# Altium footprint library SparkFun-LED.PCBLIB: 30 footprints (part 1 of 2)
Each footprint in its own frame and in the unit in brackets; x right, y up, seen from the top. Pads: shape width x height; smd on the part's side, far side on the other; paste and mask are expansions set on the pad; w line width, h text height; cw(c..) or ccw(c..) is an arc to the next point about the centre after c.
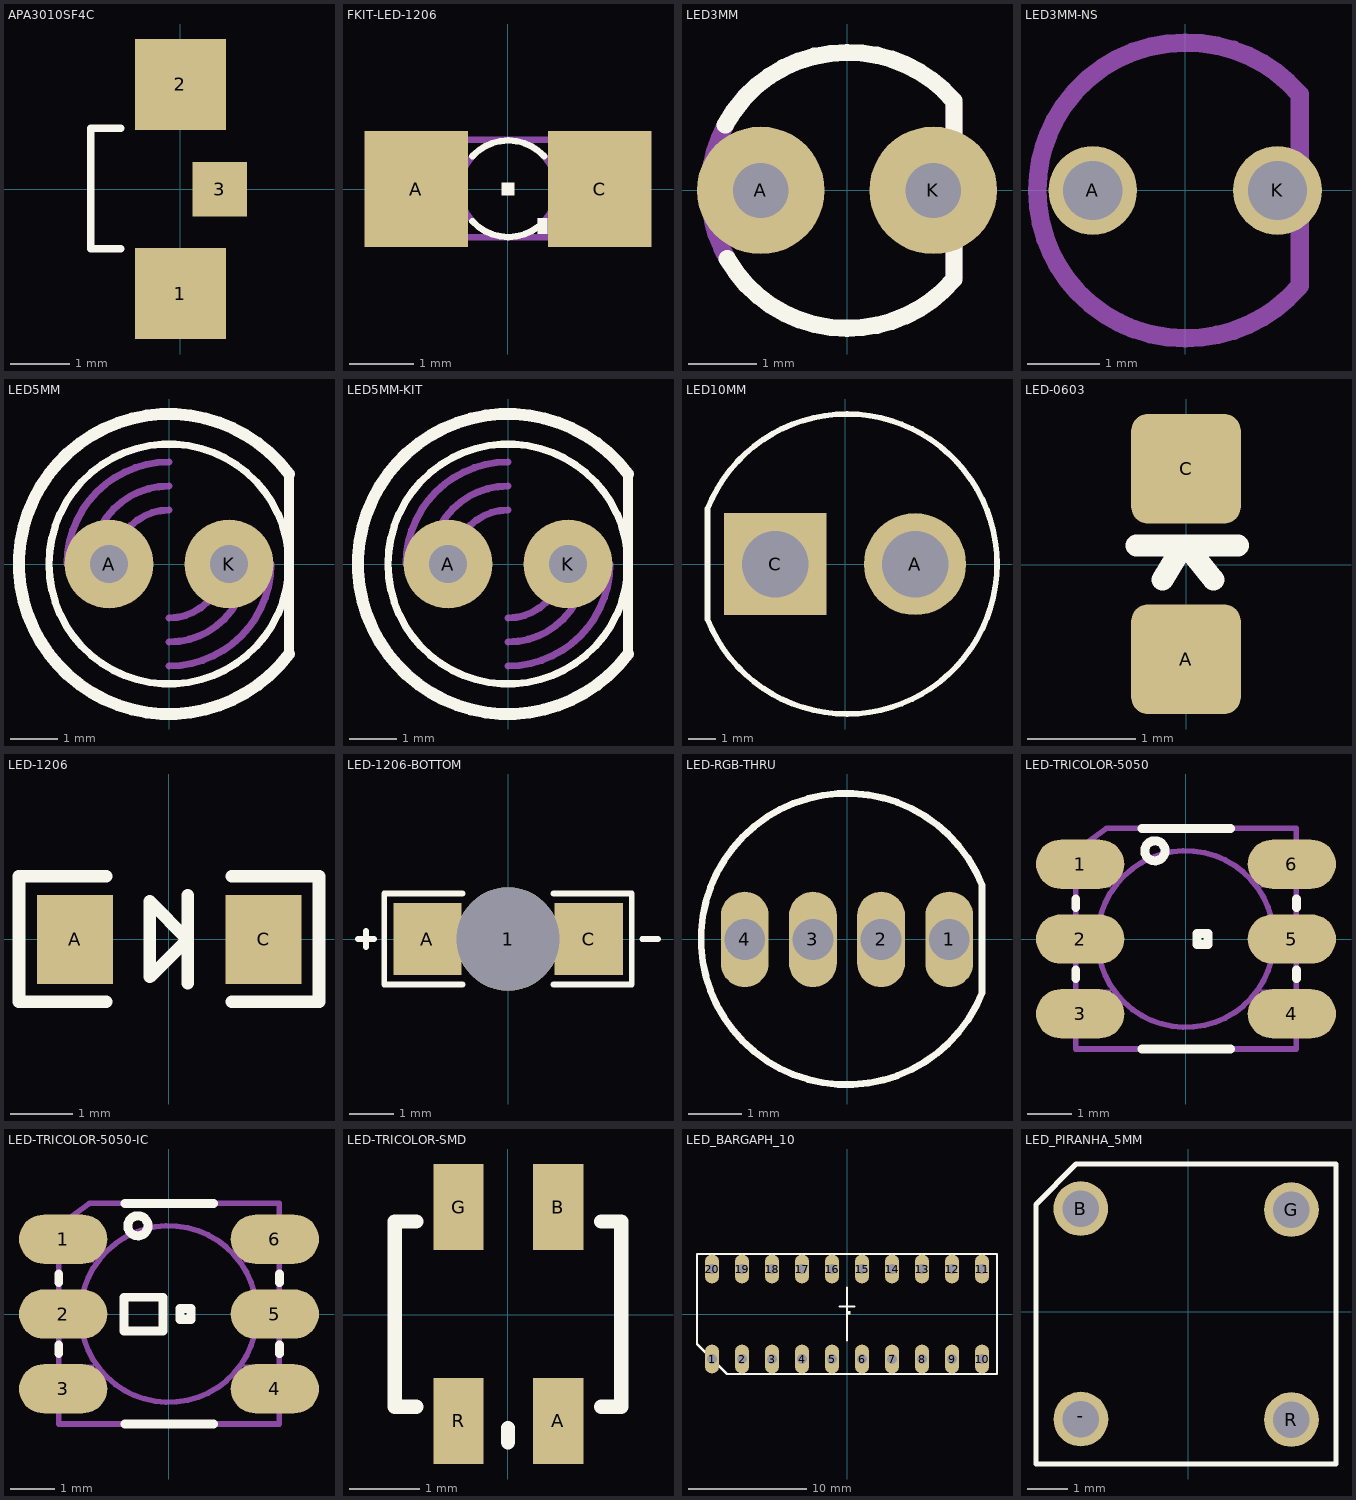
[diagram p0: the footprints below, top view; thin cyan lines are the x and y axes]

## APA3010SF4C [mil]
pads (3):
  rect 60x60 smd: 1(0,-68.9) 2(0,69)
  rect 36x36 smd: 3(26,0)
Top Overlay:
  lines w5: -39.37,-39.37 -59.06,-39.37 -59.06,40 -39.37,40

## FKIT-LED-1206 [mil]
pads (2):
  rect 63x71 smd: A(-55.98,0) C(56,0)
Top Overlay:
  rectangle: -3.94,-3.94 4,4
  rectangle: 18,-27.56 24,-17.72
  lines w4: -21.65,-19.69 ccw(c0.17,0.16) 22,-19.69 ; -21.65,20 cw(c0.17,0.16) 22,20
Mechanical 2:
  text ">NAME" at -50,50 h77.5
Mechanical 4:
  text ">VALUE" at -50,-100 h77.5
Mechanical 16:
  rectangle: 18,-27.56 32,-17.72
  rectangle: 32,-27.56 36,20
  rectangle: 32,22 36,28
  rectangle: -35.43,-27.56 -31.5,20
  rectangle: -35.43,22 -31.5,28
  lines w4: -21.65,-19.69 cw(c0.17,0.16) -21.65,20 ; 22,-19.69 ccw(c0.17,0.16) 22,20 ; -61.02,-29.53 62,-29.53 62,30 -61.02,30 -61.02,-29.53

## LED3MM [mil]
pads (2):
  round 74 hole 32: A(-50,0) K(50,0)
Top Overlay:
  lines w10: -70.59,38 cw(c-0.29,0.18) 0,80 cw(c1.11,-0.19) 62,52 ; -69.46,-39.69 ccw(c0,0) 0,-80 ccw(c0.47,1) 62,-51.68 ; 62,-51 62,-33 ; 62,31 62,51
Mechanical 2:
  text ">NAME" at 75,15 h77.5
Mechanical 4:
  text ">VALUE" at 75,-65 h77.5
Mechanical 16:
  lines w10: -70.44,38 ccw(c0.14,0.04) -80,0 ccw(c0,0) -68.13,-41.93 ; 62,-50 62,50

## LED3MM-NS [mil]
pads (2):
  round 48 hole 32: A(-50,0) K(50,0)
Mechanical 2:
  text ">NAME" at 75,15 h77.5
Mechanical 4:
  text ">VALUE" at 75,-65 h77.5
Mechanical 16:
  lines w10: -70.59,38 cw(c-0.29,0.18) 0,80 cw(c1.11,-0.19) 62,52 ; -70.44,38 ccw(c0.14,0.04) -80,0 ccw(c0,0) -68.13,-41.93 ; -69.46,-39.69 ccw(c0,0) 0,-80 ccw(c0.47,1) 62,-51.68 ; 62,-51 62,-33 ; 62,-50 62,50 ; 62,31 62,51

## LED5MM [mil]
pads (2):
  round 74 hole 32: A(-50,0) K(50,0)
Top Overlay:
  circle w6: c0,0 r100
  lines w8: 100,-75 100,75
  lines w10: 100,-75 cw(c0,0) 100,75
Mechanical 2:
  text ">NAME" at 125,21 h77.5
Mechanical 4:
  text ">VALUE" at 126,-71 h77.5
Mechanical 16:
  lines w6: -85,0 cw(c0,0) 0,85 ; -65,0 cw(c0,0) 0,65 ; -45,0 cw(c0,0) 0,45 ; 0,-85 ccw(c0,0) 85,0 ; 0,-65 ccw(c0,0) 65,0 ; 0,-45 ccw(c0,0) 45,0

## LED5MM-KIT [mil]
pads (2):
  round 74 hole 32: A(-50,0) K(50,0)
Top Overlay:
  circle w6: c0,0 r100
  lines w8: 100,-75 100,75
  lines w10: 100,-75 cw(c0,0) 100,75
Top Solder:
  region: 0,0 10,0 10,10 0,10
  region: 0,0 10,0 10,10 0,10
Bottom Solder:
  region: 0,0 10,0 10,10 0,10
  region: 0,0 10,0 10,10 0,10
Mechanical 2:
  text ">NAME" at 125,21 h77.5
Mechanical 4:
  text ">VALUE" at 126,-71 h77.5
Mechanical 16:
  lines w6: -85,0 cw(c0,0) 0,85 ; -65,0 cw(c0,0) 0,65 ; -45,0 cw(c0,0) 0,45 ; 0,-85 ccw(c0,0) 85,0 ; 0,-65 ccw(c0,0) 65,0 ; 0,-45 ccw(c0,0) 45,0

## LED10MM [mil]
pads (2):
  round 146 hole 95: A(100,0)
  rect 146x146 hole 95: C(-100,0)
Top Overlay:
  lines w8: -196.85,-78.74 ccw(c2.67,0.13) -196.85,79 -196.85,-78.74
Mechanical 16:
  text "L" at 85,100 h62
  text "S" at -115,100 h62

## LED-0603 [mil]
pads (2):
  rrect30% 40x40 smd: A(0,-34.53) C(0,35)
Top Overlay:
  lines w8: -18.11,7 0,7 ; -8.6,-5.51 -1,7 ; 10,-5.51 0,7 ; 19,7 0,7
Mechanical 2:
  text ">NAME" at -27.5,-35 h24.8
Mechanical 4:
  text ">VALUE" at 43,-40 h24.8

## LED-1206 [mil]
pads (2):
  rect 48x56 smd: A(-59.06,0) C(60,0)
Top Overlay:
  lines w8: -39.37,-39.37 -94.49,-39.37 -94.49,40 -39.37,40 ; 12,-27.56 12,0 ; 12,28 12,0 ; 40,-39.37 95,-39.37 95,40 40,40 ; 12,0 -11.81,24 -11.81,-23.62 12,0
Mechanical 2:
  text ">NAME" at -35,55 h24.8
Mechanical 4:
  text ">VALUE" at -40,-70 h24.8

## LED-1206-BOTTOM [mil]
pads (3):
  round 91 hole 91: 1(0,0)
  rect 60x63 smd: A(-70.87,0) C(71,0)
Top Overlay:
  lines w5: -132,0 -118,0 ; -125,-7 -125,7 ; -40,-40 -109,-40 -109,40 -40,40 ; 40,-40 109,-40 109,40 40,40 ; 118,0 132,0
Mechanical 2:
  text ">NAME" at -100,50 h77.5
Mechanical 4:
  text ">VALUE" at -100,-100 h77.5
Mechanical 14:
  lines w5: -94.49,0 -62.99,0 ; -78.74,-15.75 -78.74,16 ; -50,0 -15,0 ; 10,-25 10,0 ; 10,25 10,0 ; 50,0 10,0 ; 63,0 95,0 ; -15,0 -15,25 10,0 ; -15,0 -15,-25 10,0
Mechanical 16:
  rectangle: -29.53,-29.53 30,30
  region: 0,0 10,0 10,10 0,10
  region: 0,0 10,0 10,10 0,10

## LED-RGB-THRU [mil]
pads (4):
  oval 35x70 hole 30: 1(75,0) 2(25,0) 3(-25,0) 4(-75,0)
Top Overlay:
  lines w5: 99,-39.37 99,40 ccw(c-0.21,0.32) 99,-39.37

## LED-TRICOLOR-5050 [mil]
pads (6):
  rrect100% 79x44 smd: 1(-94.49,67) 2(-94.49,0) 3(-94.49,-66.93) 4(95,-66.93) 5(95,0) 6(95,67)
Top Overlay:
  circle w8: c-27.56,79 r9
  lines w8: -98.43,-35.43 -98.43,-27.56 ; -98.43,28 -98.43,36 ; -39.37,-98.43 40,-98.43 ; -39.37,99 40,99 ; 99,-35.43 99,-27.56 ; 99,28 99,36 ; 10,-5 10,5 20,5 20,-5 10,-5
Mechanical 2:
  text ">Name" at -100,110 h46.5
Mechanical 4:
  text ">Value" at -100,-140 h46.5
Mechanical 16:
  circle w5: c0,0 r79
  rectangle: 67,-17.72 107,18
  rectangle: 67,46 107,81
  rectangle: 67,-80.71 107,-45.28
  region: -66.93,81 -106.3,81 -106.3,46 -66.93,46
  region: -66.93,18 -106.3,18 -106.3,-17.72 -66.93,-17.72
  region: -66.93,-45.28 -106.3,-45.28 -106.3,-80.71 -66.93,-80.71
  lines w5: -98.43,-98.43 -98.43,79 -70.87,99 99,99 99,-98.43 -98.43,-98.43

## LED-TRICOLOR-5050-IC [mil]
pads (6):
  rrect100% 79x44 smd: 1(-94.49,67) 2(-94.49,0) 3(-94.49,-66.93) 4(95,-66.93) 5(95,0) 6(95,67)
Top Overlay:
  circle w8: c-27.56,79 r9
  lines w8: -98.43,-35.43 -98.43,-27.56 ; -98.43,28 -98.43,36 ; -39.37,-98.43 40,-98.43 ; -39.37,99 40,99 ; 99,-35.43 99,-27.56 ; 99,28 99,36 ; -40,-15 -40,15 -5,15 -5,-15 -40,-15 ; 10,-5 10,5 20,5 20,-5 10,-5
Mechanical 2:
  text ">Name" at -100,110 h46.5
Mechanical 4:
  text ">Value" at -100,-140 h46.5
Mechanical 16:
  circle w5: c0,0 r79
  rectangle: 67,-17.72 107,18
  rectangle: 67,46 107,81
  rectangle: 67,-80.71 107,-45.28
  region: -66.93,81 -106.3,81 -106.3,46 -66.93,46
  region: -66.93,18 -106.3,18 -106.3,-17.72 -66.93,-17.72
  region: -66.93,-45.28 -106.3,-45.28 -106.3,-80.71 -66.93,-80.71
  lines w5: -98.43,-98.43 -98.43,79 -70.87,99 99,99 99,-98.43 -98.43,-98.43

## LED-TRICOLOR-SMD [mil]
pads (4):
  rect 28x48 smd: A(28,-59.06) B(28,60) G(-27.56,60) R(-27.56,-59.06)
Top Overlay:
  lines w8: -51.18,-51.18 -62.99,-51.18 -62.99,52 -51.18,52 ; 0,-70.87 0,-62.99 ; 52,-51.18 63,-51.18 63,52 52,52
Mechanical 2:
  text ">NAME" at -40,5 h24.8
Mechanical 4:
  text ">VALUE" at -40,-25 h24.8

## LED_BARGAPH_10 [mil]
pads (20):
  oval 48x96 hole 32: 1(-450,-150) 2(-350,-150) 3(-250,-150) 4(-150,-150) 5(-50,-150) 6(50,-150) 7(150,-150) 8(250,-150) 9(350,-150) 10(450,-150) 11(450,150) 12(350,150) 13(250,150) 14(150,150) 15(50,150) 16(-50,150) 17(-150,150) 18(-250,150) 19(-350,150) 20(-450,150)
Top Overlay:
  region: 0,0 10,0 10,10 0,10
  lines w8: -25,25 25,25 ; 0,-87.5 0,88 ; -500,-100 -400,-200 500,-200 500,200 -500,200 -500,-100
Mechanical 2:
  text ">NAME" at -400,-25 h77.5
Mechanical 4:
  text ">VALUE" at 200,-25 h77.5

## LED_PIRANHA_5MM [mil]
pads (4):
  round 54 hole 36: -(-105.67,-105.67) B(-105.83,102) G(102,101) R(102,-106.14)
Top Overlay:
  lines w5: -150,-150 146,-150 146,146 -110.63,146 -150,106 -150,-150
Mechanical 2:
  text "B" at -64.96,92 h37.2
  text "G" at 38,91 h37.2
  text "R" at 41,-123.27 h37.2
  text "-" at -60,-119.33 h37.2
  text "PIRANHA 5MM" at -78.31,9 h24.8
Mechanical 4:
  text ">VALUE" at -50.31,-17.32 h24.8